# Altium footprint library QFN-6_2x2x065P.PcbLib: 1 footprints
Each footprint in its own frame and in the unit in brackets; x right, y up, seen from the top. Pads: shape width x height; smd on the part's side, far side on the other; paste and mask are expansions set on the pad; w line width, h text height; cw(c..) or ccw(c..) is an arc to the next point about the centre after c.
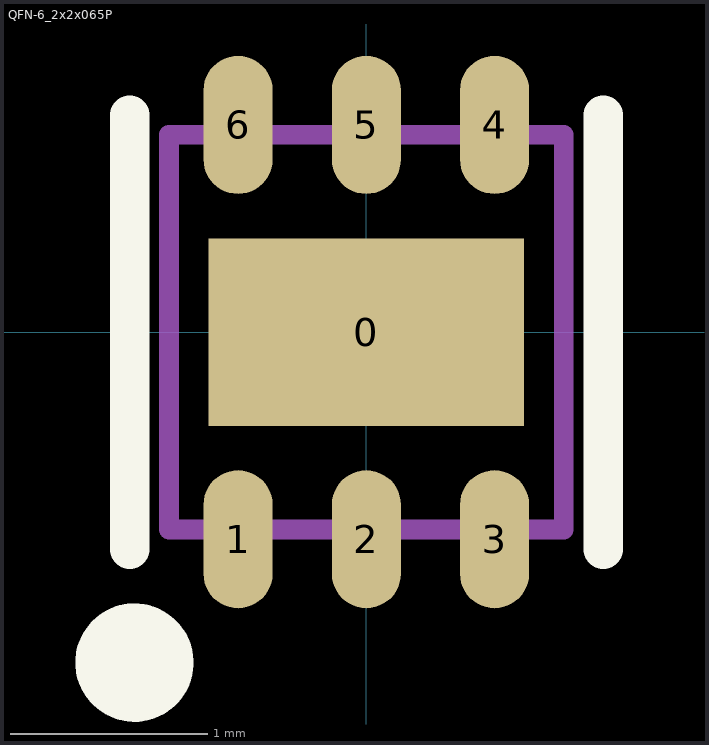
[diagram p0: the footprint, top view; thin cyan lines are the x and y axes]

## QFN-6_2x2x065P [mm]
pads (7):
  rect 1.6x0.95 smd mask+0.051: 0(0,0)
  oval 0.35x0.7 smd mask+0.051: 1(-0.65,-1.05) 2(0,-1.05) 3(0.65,-1.05) 4(0.65,1.05) 5(0,1.05) 6(-0.65,1.05)
Top Overlay:
  circle w0.3: c-1.175,-1.675 r0.15
  lines w0.2: -1.2,-1.1 -1.2,1.1 ; 1.2,-1.1 1.2,1.1
Mechanical 13:
  lines w0.1: -1,-1 -1,1 1,1 1,-1 -1,-1